# Altium footprint library PCB1.PcbLib: 13 footprints
Each footprint in its own frame and in the unit in brackets; x right, y up, seen from the top. Pads: shape width x height; smd on the part's side, far side on the other; paste and mask are expansions set on the pad; w line width, h text height; cw(c..) or ccw(c..) is an arc to the next point about the centre after c.
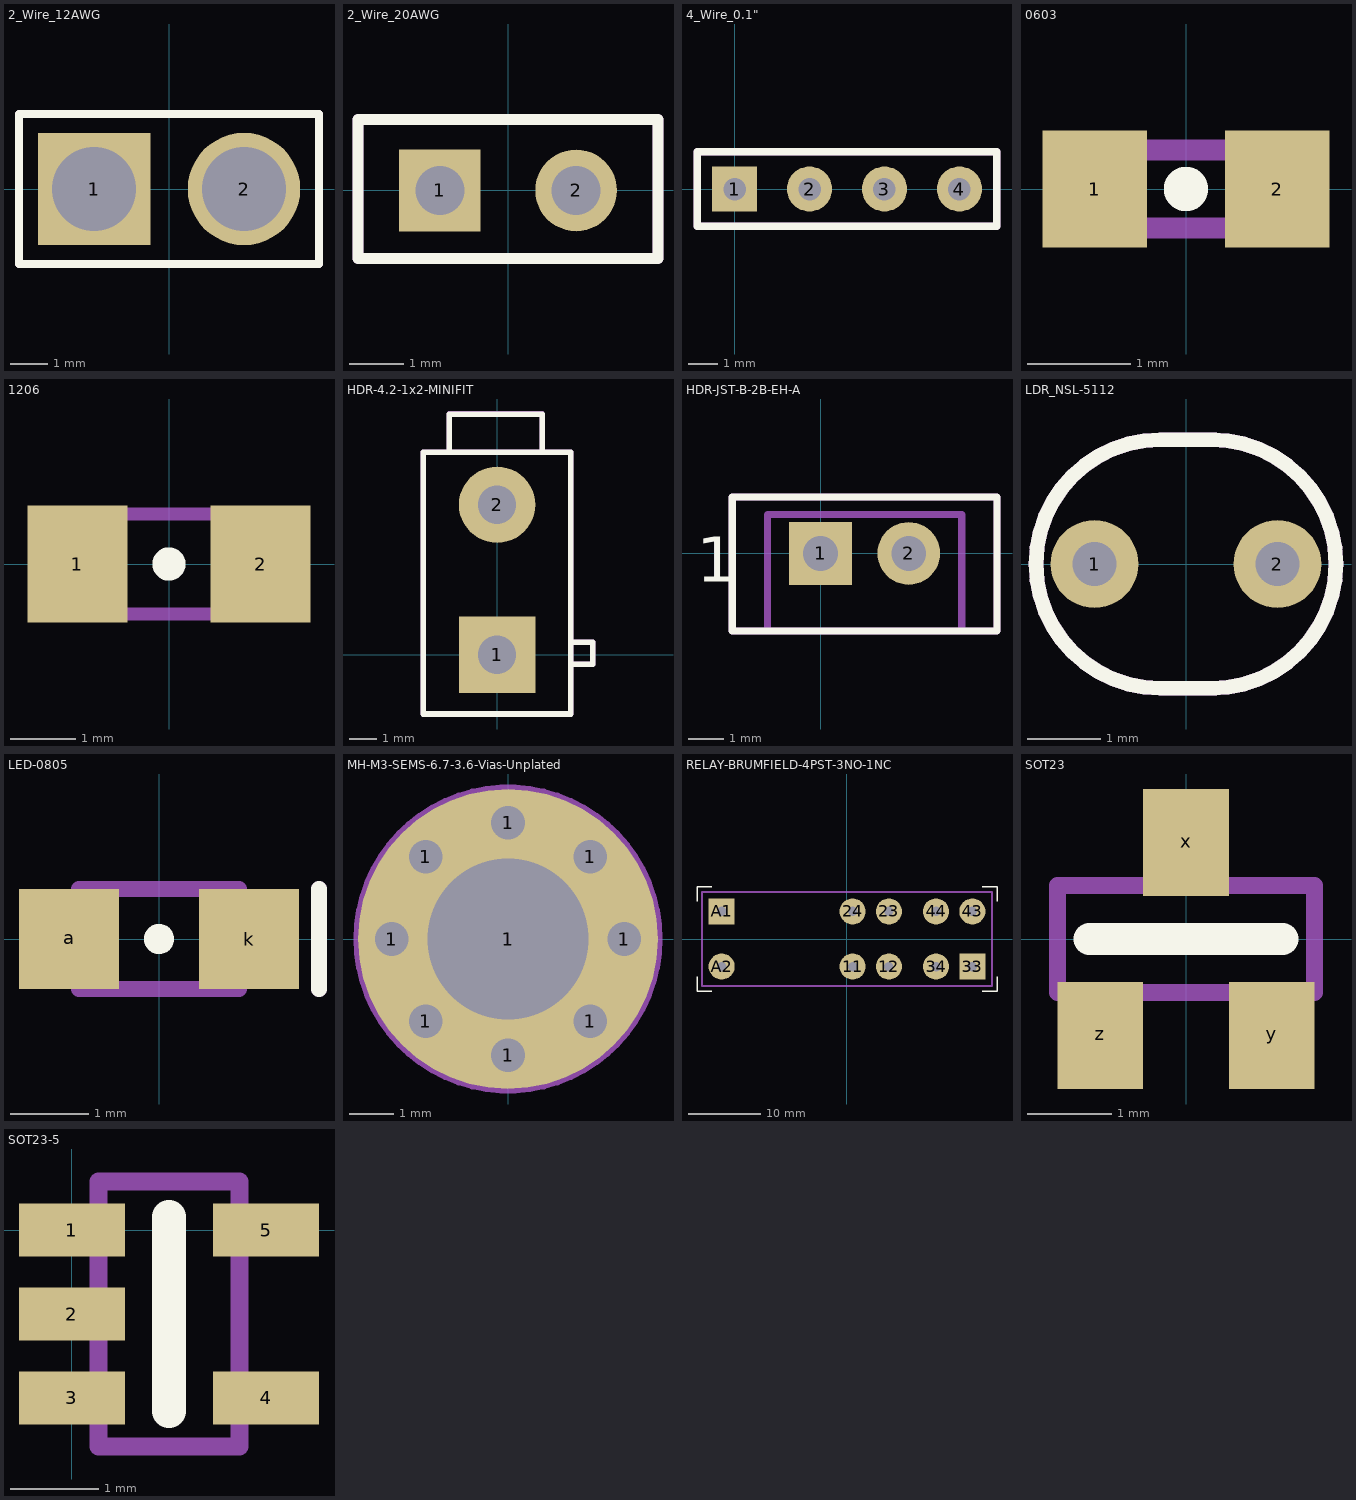
[diagram p0: the footprints below, top view; thin cyan lines are the x and y axes]

## 2_Wire_12AWG [mm]
pads (2):
  rect 3x3 hole 2.25: 1(-2,0)
  round 3 hole 2.25: 2(2,0)
Top Overlay:
  lines w0.203: -4,-2 4,-2 4,2 -4,2 -4,-2
Mechanical 4:
  lines w0.203: -4,-2 4,-2 4,2 -4,2 -4,-2

## 2_Wire_20AWG [mm]
pads (2):
  rect 1.5x1.5 hole 0.9: 1(-1.25,0)
  round 1.5 hole 0.9: 2(1.25,0)
Top Overlay:
  lines w0.203: -2.75,-1.25 2.75,-1.25 2.75,1.3 -2.75,1.3 -2.75,-1.25
Mechanical 4:
  lines w0.203: -2.75,-1.25 2.75,-1.25 2.75,1.3 -2.75,1.3 -2.75,-1.25

## 4_Wire_0.1" [mil]
pads (4):
  rect 60x60 hole 30: 1(0,0)
  round 60 hole 30: 2(100,0) 3(200,0) 4(300,0)
Top Overlay:
  lines w10: -50,-50 -50,50 350,50 350,-50 -50,-50
Mechanical 4:
  lines w10: -50,-50 350,-50 350,50 -50,50 -50,-50

## 0603 [mil]
pads (2):
  rect 40x45 smd: 1(-35,0) 2(35,0)
Top Overlay:
  circle w10: c0,0 r3.5
Mechanical 4:
  lines w8: -30,-15 -30,15 30,15 30,-15 -30,-15
3D body: height 35.43, standoff 0, extent -34,-19 34,19

## 1206 [mil]
pads (2):
  rect 60x70 smd: 1(-55,0) 2(55,0)
Top Overlay:
  circle w10: c0,0 r5
Mechanical 4:
  lines w8: -60,-30 -60,30 60,30 60,-30 -60,-30
3D body: height 55.12, standoff 0, extent -64,-34 64,34

## HDR-4.2-1x2-MINIFIT [mm]
pads (2):
  rect 2.8x2.8 hole 1.4: 1(0,0)
  round 2.8 hole 1.4: 2(0,5.5)
Top Overlay:
  lines w0.203: -1.75,7.425 -1.75,8.825 1.65,8.825 1.65,7.425 ; 2.7,-0.35 3.5,-0.35 3.5,0.05 3.5,0.45 2.7,0.45 ; -2.7,-2.175 -2.7,2.625 -2.7,7.425 2.7,7.425 2.7,2.625 2.7,-2.175 -2.7,-2.175
Mechanical 4:
  lines w0.203: -1.751,7.425 -1.751,8.827 1.65,8.827 1.65,7.425 ; 2.7,-0.35 3.5,-0.35 3.5,0.45 2.7,0.45 ; -2.7,-2.175 -2.7,7.425 2.7,7.425 2.7,-2.175 1.2,-2.175 -2.7,-2.175
3D body: height 12.8, standoff -3.5, extent -3.1,-2.2 3.1,8.8

## HDR-JST-B-2B-EH-A [mil]
pads (2):
  rect 70x70 hole 39: 1(0,0)
  round 70 hole 39: 2(98.42,0)
Top Overlay:
  lines w8: 196.81,-86.61 196.85,62.99 -98.42,62.99 -98.42,-86.61 196.85,-86.61
  text "1" at -137.79,-31.5 h50
Mechanical 4:
  lines w8: -59.05,-86.61 -59.05,43.31 157.48,43.31 157.48,-86.61 ; -98.42,-86.61 -98.42,62.99 196.85,62.99 196.85,-86.61 -98.42,-86.61
3D body: height 236.22, standoff -125.98, extent -99.41,-88.59 195.86,61.02

## LDR_NSL-5112 [mm]
pads (2):
  round 1.2 hole 0.6: 1(-1.25,0) 2(1.25,0)
Top Overlay:
  lines w0.2: 0.35,-1.7 ccw(c0.35,0) 0.35,1.7 ; 0.401,-1.7 -0.35,-1.7 cw(c-0.35,0) -0.35,1.7 0.401,1.7
Mechanical 4:
  lines w0.2: 0.35,-1.7 ccw(c0.35,0) 0.35,1.7 ; 0.401,-1.7 -0.35,-1.7 cw(c-0.35,0) -0.35,1.7 0.401,1.7
3D body: height 1.8, standoff 0, extent -0.349,-1.699 0.351,1.7
3D body: height 1.8, standoff 0, extent -1.348,-1.699 2.05,1.7
3D body: height 1.8, standoff 0, extent -2.048,-1.699 1.35,1.7

## LED-0805 [mil]
pads (2):
  rect 50x50 smd: a(-45,0) k(45,0)
Top Overlay:
  circle w10: c0,0 r2.5
  lines w8: 80,-25 80,25
Mechanical 4:
  lines w8: 80,-25 80,25 ; -40,-25 -40,25 40,25 40,-25 -40,-25
3D body: height 43.31, standoff 0, extent -39.76,-24.6 39.76,24.61

## MH-M3-SEMS-6.7-3.6-Vias-Unplated [mm]
pads (9):
  round 1 hole 0.75: 1(-2.6,0) 1(-1.838,-1.838) 1(-1.838,1.838) 1(0,-2.6) 1(0,2.6) 1(1.838,-1.838) 1(1.838,1.838) 1(2.6,0)
  round 6.7 hole 3.6 unplated: 1(0,0)
Mechanical 4:
  circle w0.203: c0,0 r3.35

## RELAY-BRUMFIELD-4PST-3NO-1NC [mm]
pads (10):
  round 3.6 hole 1.3: 11(0.775,-3.8) 12(5.775,-3.8) 23(5.775,3.8) 24(0.775,3.8) 34(12.275,-3.8) 43(17.275,3.8) 44(12.275,3.8) A2(-17.275,-3.8)
  rect 3.6x3.6 hole 1.3: 33(17.275,-3.8) A1(-17.275,3.8)
Top Overlay:
  lines w0.203: -20.675,-5.175 -20.675,-7.175 -18.675,-7.175 ; -20.675,5.175 -20.675,7.175 -18.675,7.175 ; 18.675,-7.175 20.675,-7.175 20.675,-5.175 ; 18.675,7.175 20.675,7.175 20.675,5.175
Mechanical 4:
  lines w0.254: -20,-6.5 -20,6.5 20,6.5 20,-6.5 -20,-6.5
3D body: height 16.5, standoff 0, extent -20,-6.475 20,6.5

## SOT23 [mil]
pads (3):
  rect 40x50 smd: x(0,45) y(40,-45) z(-40,-45)
Top Overlay:
  lines w15: -45,0 45,0
Mechanical 4:
  lines w8: -45,-25 -45,-55 -35,-55 -35,-25 ; -5,25 -5,55 5,55 5,25 ; 35,-25 35,-55 45,-55 45,-25 ; -60,-25 -60,25 60,25 60,-25 -60,-25
3D body: height 47.24, standoff 0, extent -59.98,-24.98 59.98,24.98
3D body: height 19.68, standoff 0, extent -5,25 5,55
3D body: height 19.68, standoff 0, extent 35,-55 45,-25
3D body: height 19.68, standoff 0, extent -45,-55 -35,-25

## SOT23-5 [mm]
pads (5):
  rect 1.2x0.6 smd: 1(0,0) 2(0,-0.95) 3(0,-1.9) 4(2.2,-1.9) 5(2.2,0)
Top Overlay:
  lines w0.381: 1.1,-2.05 1.1,0.15
Mechanical 4:
  lines w0.203: 0.3,-2.05 -0.2,-2.05 -0.2,-1.75 0.3,-1.75 ; 0.3,-1.1 -0.2,-1.1 -0.2,-0.8 0.3,-0.8 ; 0.3,-0.15 -0.2,-0.15 -0.2,0.15 0.3,0.15 ; 1.9,-2.05 2.4,-2.05 2.4,-1.75 1.9,-1.75 ; 1.9,-0.15 2.4,-0.15 2.4,0.15 1.9,0.15 ; 0.3,-2.45 1.9,-2.45 1.9,0.55 0.3,0.55 0.3,-2.45
3D body: height 1.2, standoff 0, extent 0.301,-2.449 1.899,0.55